# Altium schematic symbol library ARCOM_Capacitors.SchLib: 225 symbols (part 4 of 4)
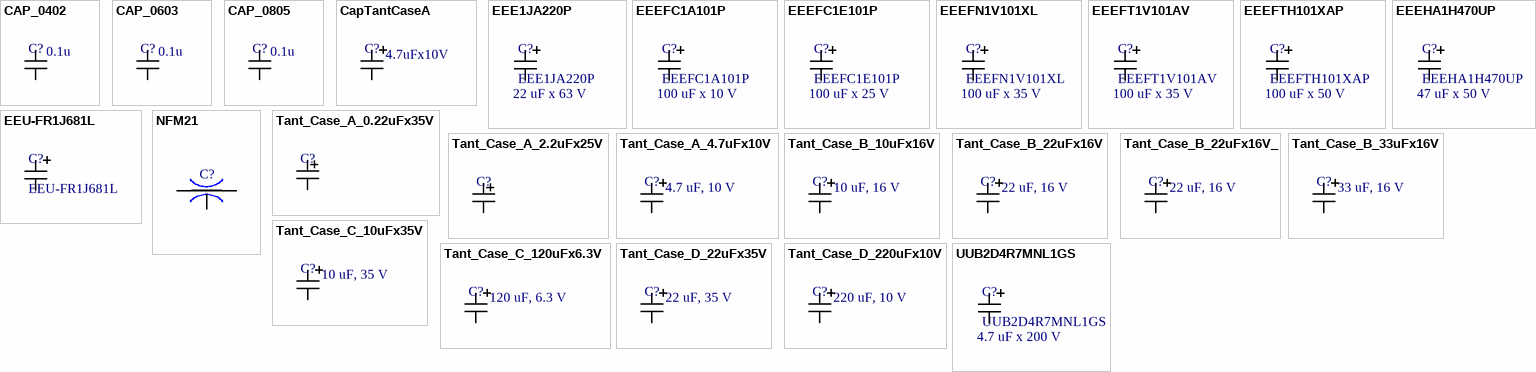
[diagram p8: symbols CAP_0402 to UUB2D4R7MNL1GS]

## EEEFTH101XAP
designator C?  value 100 uF x 50 V
Cap, Aluminum, 100uF, 50V, 20%; Manufacturer: Panasonic; ComponentLink1Description: Manufacturer; ComponentLink1URL: http://industrial.panasonic.com/ww/products/capacitors; ComponentLink2Description: Datasheet; ComponentLink2URL: http://www.farnell.com/datasheets/1725489.pdf; Manufacturer P/N: EEEFTH101XAP; part: EEEFTH101XAP; Family: Capacitor
footprint FHTE-8-AA07-2_M (Through Hole Cap, 2-Leads, Dia 6.3mm, Body Length 7mm, IPC Low Density)
pins: 1, 2

## EEEHA1H470UP
designator C?  value 47 uF x 50 V
Cap, Aluminum, 47uF, 50V, 20%; Manufacturer: Panasonic; ComponentLink1Description: Manufacturer; ComponentLink1URL: http://industrial.panasonic.com/ww/products/capacitors; ComponentLink2Description: Datasheet; ComponentLink2URL: http://www.farnell.com/datasheets/1725489.pdf; Manufacturer P/N: EEEHA1H470UP; part: EEEHA1H470UP; Family: Capacitor
footprint Size_F_elecrolytic
pins: 1, 2

## EEU-FR1J681L
designator C?
Cap, Aluminum, 680uF, 63V, 20%; Manufacturer: Panasonic; value: 680 uF x 63 V; ComponentLink1Description: Manufacturer; ComponentLink1URL: https://industrial.panasonic.com/ww/products/capacitors; ComponentLink2Description: Datasheet; ComponentLink2URL: https://www.mouser.com/datasheet/2/315/ABA0000C1022-1144690.pdf; Family: Capacitor; Manufacturer P/N: EEU-FR1J681L; Part: EEU-FR1J681L
footprint CAP TH ALUM ELEC D12.50mm S5.00mm H35.00mm (12.5mm Diameter 5mm Lead Spacing Aluminum Electrolytic Capacitors Radial, Can)
pins: 1, 2

## NFM21
designator C?
Family: Capacitor
pins: 1, 2, 3

## Tant_Case_A_0.22uFx35V
designator C?  (value not drawn)
Tantalum Capacitor A-Size; Manufacturer: KEMET Corporation; Manufacturer P/N: T491A224K035AT; Part: 0.22uFx35Vx10%tol.; Value: 0.22 uF, 35 V; ComponentLink1Description: Manufacturer; ComponentLink1URL: http://www.kemet.com/; ComponentLink2Description: Datasheet; ComponentLink2URL: https://www.mouser.com/datasheet/2/212/1/KEM_T2005_T491-1093550.pdf; ComponentLink3Description: Datasheet2; Family: Capacitor
footprint T_CASE_A_N_Yellow
pins: 1, 2

## Tant_Case_A_2.2uFx25V
designator C?  (value not drawn)
Tantalum Capacitor A-Size; Manufacturer: AVX Corporation; Manufacturer P/N: TAJA225K025R; Part: 2.2uFx25Vx10%tol.; Value: 2.2 uF, 25 V; ComponentLink1Description: Manufacturer; ComponentLink1URL: https://www.kyocera-avx.com/; ComponentLink2Description: Datasheet; ComponentLink2URL: https://datasheets.kyocera-avx.com/TAJ.pdf; ComponentLink3Description: Datasheet2; Family: Capacitor
footprint T_CASE_A_N_Yellow
pins: 1, 2

## Tant_Case_A_4.7uFx10V
designator C?  value 4.7 uF, 10 V  (hidden comment: Tant_Case_A_4.7uFx10V)
Tantalum Capacitor A-Size; Manufacturer: KEMET Corporation; Manufacturer P/N: T491A475K010AS; Part: 4.7uFx10Vx10%tol.; ComponentLink1Description: Manufacturer; ComponentLink1URL: http://www.kemet.com/; ComponentLink2Description: Datasheet; ComponentLink2URL: http://www.mouser.com/ds/2/212/m_t2005_t491-300987.pdf; ComponentLink3Description: Datasheet2; Family: Capacitor
footprint T_Case_A_N (Capacitor, Polarized, Molded  Body 3.2x1.6mm, IPC Medium Density)
pins: 1, 2

## Tant_Case_B_10uFx16V
designator C?  value 10 uF, 16 V  (hidden comment: Tant_Case_B_10uFx16V)
Tantalum Capacitor B-Size; Manufacturer: Kemet; Manufacturer P/N: T491B106K016AS; Part: 10uFx16Vx10%tol.; ComponentLink1Description: Manufacturer; ComponentLink1URL: http://www.kemet.com/; ComponentLink2Description: Datasheet; ComponentLink2URL: http://www.mouser.com/ds/2/212/m_t2005_t491-300987.pdf; ComponentLink3Description: Datasheet2; Family: Capacitor
footprint T_Case_B_Reflow_solder (Capacitor, Polarized, Molded  Body mm, IPC Medium Density)
pins: 1, 2

## Tant_Case_B_22uFx16V
designator C?  value 22 uF, 16 V  (hidden comment: Tant_Case_B_22uFx16V)
Obsolete!; Manufacturer: Kemet; Manufacturer P/N: T491B226K016AS; Part: 22uFx16Vx10%tol.; ComponentLink1Description: Manufacturer; ComponentLink1URL: http://www.kemet.com/; ComponentLink2Description: Datasheet; ComponentLink2URL: http://www.mouser.com/ds/2/212/m_t2005_t491-300987.pdf; ComponentLink3Description: Datasheet2; Family: Capacitor
footprint T_Case_B_Reflow_solder (Capacitor, Polarized, Molded  Body mm, IPC Medium Density)
pins: 1, 2

## Tant_Case_B_22uFx16V_
designator C?, comment value 22 uF, 16 V  (hidden comment: Tant_Case_B_22uFx16V)
Tantalum Capacitor B-Size; Manufacturer: Kemet; Manufacturer P/N: T491B226K016AT; Part: 22uFx16Vx10%tol.; ComponentLink1Description: Manufacturer; ComponentLink1URL: http://www.kemet.com/; ComponentLink2Description: Datasheet; ComponentLink2URL: http://www.mouser.com/ds/2/212/m_t2005_t491-300987.pdf; ComponentLink3Description: Datasheet2; Family: Capacitor
footprint T_Case_B_Reflow_solder (Capacitor, Polarized, Molded  Body mm, IPC Medium Density)
pins: 1, 2

## Tant_Case_B_33uFx16V
designator C?, comment value 33 uF, 16 V  (hidden comment: Tant_Case_B_22uFx16V)
Tantalum Capacitor B-Size; Manufacturer: Kemet; Manufacturer P/N: T491B336K016AT; Part: 33uFx16Vx10%tol.; ComponentLink1Description: Manufacturer; ComponentLink1URL: http://www.kemet.com/; ComponentLink2Description: Datasheet; ComponentLink2URL: http://www.mouser.com/ds/2/212/m_t2005_t491-300987.pdf; ComponentLink3Description: Datasheet2; Family: Capacitor
footprint T_Case_B_Reflow_solder (Capacitor, Polarized, Molded  Body mm, IPC Medium Density)
pins: 1, 2

## Tant_Case_C_10uFx35V
designator C?  value 10 uF, 35 V  (hidden comment: Tant_Case_C_10uFx35V)
Tantalum Capacitor C-Size; Manufacturer: Kemet; Manufacturer P/N: T491C106K035AT; Part: 10uFx35Vx10%tol.; ComponentLink1Description: Manufacturer; ComponentLink1URL: https://www.kemet.com/en/us.html; ComponentLink2Description: Datasheet; ComponentLink2URL: https://www.mouser.com/datasheet/2/212/1/KEM_T2005_T491-1093550.pdf; ComponentLink3Description: Datasheet2; Family: Capacitor
footprint T_Case_C_N (Capacitor, Polarized, Molded  Body 7.2x3.2mm, IPC Medium Density)
pins: 1, 2

## Tant_Case_C_120uFx6.3V
designator C?  value 120 uF, 6.3 V  (hidden comment: Tant_Case_C_120uFx6.3V)
Tantalum Capacitor C-Size; Manufacturer: Vishay; Manufacturer P/N: 594D127X96R3C2; Part: 120uFx6.3Vx10%tol.; ComponentLink1Description: Manufacturer; ComponentLink1URL: http://www.vishay.com; ComponentLink2Description: Datasheet; ComponentLink2URL: http://www.vishay.com/docs/40006/594d.pdf; ComponentLink3Description: Datasheet2; Family: Capacitor
footprint T_Case_C_N (Capacitor, Polarized, Molded  Body 7.2x3.2mm, IPC Medium Density)
pins: 1, 2

## Tant_Case_D_22uFx35V
designator C?  value 22 uF, 35 V  (hidden comment: Tant_Case_D_22uFx35V)
Tantalum Capacitor C-Size; Manufacturer: AVX; Manufacturer P/N: TAJD226K035RNJ; Part: 22uFx35Vx10%tol.; ComponentLink1Description: Manufacturer; ComponentLink2Description: Datasheet; ComponentLink2URL: http://www.mouser.com/ds/2/40/taj-776811.pdf; ComponentLink3Description: Datasheet2; Family: Capacitor
footprint T_CASE_D
pins: 1, 2

## Tant_Case_D_220uFx10V
designator C?  value 220 uF, 10 V  (hidden comment: Tant_Case_D_220uFx10V)
Tantalum Capacitor C-Size; Manufacturer: AVX; Manufacturer P/N: TPSD227K010R0150; Part: 220uFx10Vx10%tol.; ComponentLink1Description: Manufacturer; ComponentLink2Description: Datasheet; ComponentLink2URL: http://www.mouser.com/ds/2/40/taj-776811.pdf; ComponentLink3Description: Datasheet2; Family: Capacitor
footprint T_CASE_D
pins: 1, 2

## UUB2D4R7MNL1GS
designator C?  value 4.7 uF x 200 V
Cap, Aluminum, 4.7uF, 200V, 20%; Manufacturer: Nichicon; ComponentLink1Description: Manufacturer; ComponentLink2Description: Datasheet; Manufacturer P/N: UUB2D4R7MNL1GS; part: UUB2D4R7MNL1GS; Family: Capacitor
footprint Size-E_ELECTROLYTIC
pins: 1, 2